# Altium footprint library QFP_Sq_127P_Side_L.PcbLib: 1 footprints
Each footprint in its own frame and in the unit in brackets; x right, y up, seen from the top. Pads: shape width x height; smd on the part's side, far side on the other; paste and mask are expansions set on the pad; w line width, h text height; cw(c..) or ccw(c..) is an arc to the next point about the centre after c.
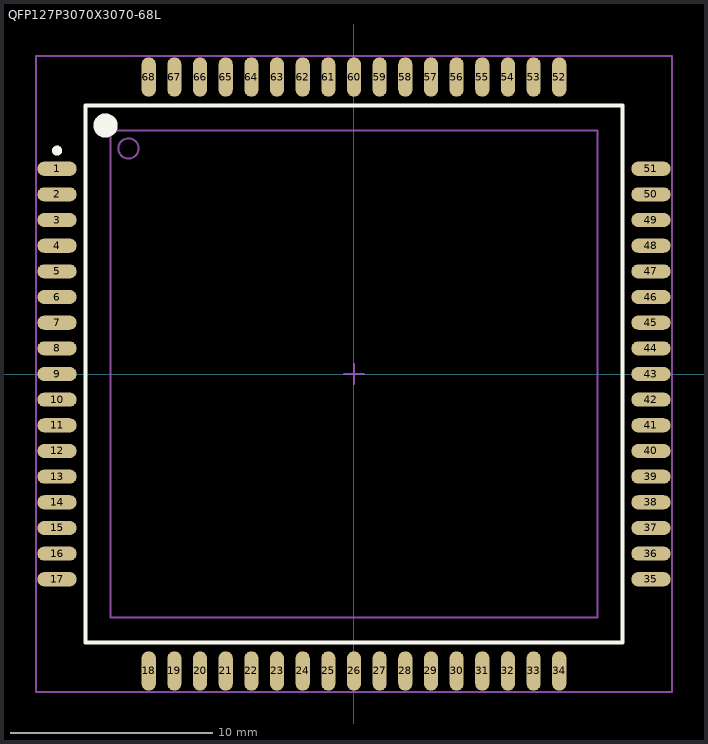
[diagram p0: the footprint, top view; thin cyan lines are the x and y axes]

## QFP127P3070X3070-68L [mm] "QFP, 68-Leads, Body 24x24mm, Pitch 1.27mm, IPC High Density"
height 4.81
pads (68):
  oval 1.95x0.7 smd: 1(-14.7,10.16) 2(-14.7,8.89) 3(-14.7,7.62) 4(-14.7,6.35) 5(-14.7,5.08) 6(-14.7,3.81) 7(-14.7,2.54) 8(-14.7,1.27) 9(-14.7,0) 10(-14.7,-1.27) 11(-14.7,-2.54) 12(-14.7,-3.81) 13(-14.7,-5.08) 14(-14.7,-6.35) 15(-14.7,-7.62) 16(-14.7,-8.89) 17(-14.7,-10.16) 35(14.7,-10.16) 36(14.7,-8.89) 37(14.7,-7.62) 38(14.7,-6.35) 39(14.7,-5.08) 40(14.7,-3.81) 41(14.7,-2.54) 42(14.7,-1.27) 43(14.7,0) 44(14.7,1.27) 45(14.7,2.54) 46(14.7,3.81) 47(14.7,5.08) 48(14.7,6.35) 49(14.7,7.62) 50(14.7,8.89) 51(14.7,10.16)
  oval 0.7x1.95 smd: 18(-10.16,-14.7) 19(-8.89,-14.7) 20(-7.62,-14.7) 21(-6.35,-14.7) 22(-5.08,-14.7) 23(-3.81,-14.7) 24(-2.54,-14.7) 25(-1.27,-14.7) 26(0,-14.7) 27(1.27,-14.7) 28(2.54,-14.7) 29(3.81,-14.7) 30(5.08,-14.7) 31(6.35,-14.7) 32(7.62,-14.7) 33(8.89,-14.7) 34(10.16,-14.7) 52(10.16,14.7) 53(8.89,14.7) 54(7.62,14.7) 55(6.35,14.7) 56(5.08,14.7) 57(3.81,14.7) 58(2.54,14.7) 59(1.27,14.7) 60(0,14.7) 61(-1.27,14.7) 62(-2.54,14.7) 63(-3.81,14.7) 64(-5.08,14.7) 65(-6.35,14.7) 66(-7.62,14.7) 67(-8.89,14.7) 68(-10.16,14.7)
Top Overlay:
  circle w0.6: c-12.3,12.3 r0.3
  circle w0.25: c-14.7,11.06 r0.125
  lines w0.2: -13.3,-13.3 13.3,-13.3 13.3,13.3 -13.3,13.3 -13.3,-13.3
Mechanical 13:
  circle w0.1: c-11.165,11.165 r0.5
  lines w0.1: -12.065,-12.065 12.065,-12.065 12.065,12.065 -12.065,12.065 -12.065,-12.065
Mechanical 15:
  lines w0.1: -0.5,0 0.5,0 ; 0,-0.5 0,0.5 ; -15.75,-15.75 15.75,-15.75 15.75,15.75 -15.75,15.75 -15.75,-15.75
3D body: height 4.81, standoff 0, extent -12.065,-12.065 12.065,12.065